# Altium footprint library connectLibPcb.PcbLib: 20 footprints (part 2 of 2)
Each footprint in its own frame and in the unit in brackets; x right, y up, seen from the top. Pads: shape width x height; smd on the part's side, far side on the other; paste and mask are expansions set on the pad; w line width, h text height; cw(c..) or ccw(c..) is an arc to the next point about the centre after c.
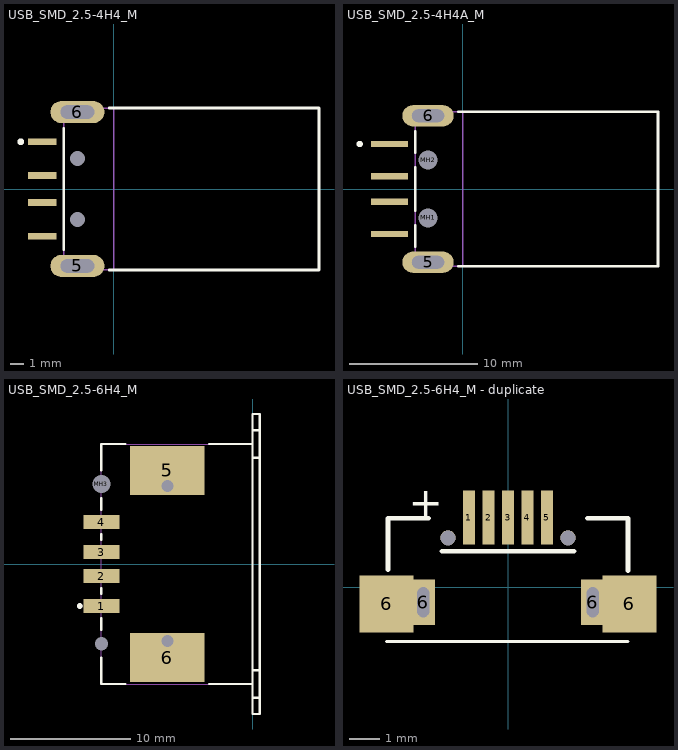
[diagram p1: the footprints below, top view; thin cyan lines are the x and y axes]

## USB_SMD_2.5-4H4_M [mm] "Connector; USB1.1, Type A, SM; 4 Position; Right Angle"
height 4.5
pads (8):
  rect 2.1x0.5 smd: 1(-5.3,3.5) 2(-5.3,1) 3(-5.3,-1) 4(-5.3,-3.5)
  oval 4x1.65 hole 1 slot 2.5 at 0 deg: 5(-2.7,-5.7) 6(-2.7,5.7)
  round 0.8 hole 1.1 unplated: MH1(-2.7,-2.25) MH2(-2.7,2.25)
Top Overlay:
  circle w0.25: c-6.9,3.5 r0.125
  lines w0.2: -3.7,-4.475 -3.7,4.475 ; -0.33,-6 15.2,-6 15.2,6 -0.33,6
Mechanical 1:
  lines w0.1: 0,-6 0,6
  text "PCB Edge" at 0.473,-5.173 h0.25
Mechanical 13:
  lines w0.1: -3.7,-6 -3.7,6 15.2,6 15.2,-6 -3.7,-6
3D body: height 4.5, standoff 0, extent -3.7,-6 15.2,6

## USB_SMD_2.5-4H4A_M [mm] "Connector; USB1.1, Type A, SM; 4 Position; Right Angle"
height 4.5
pads (8):
  rect 2.9x0.5 smd: 1(-5.7,3.5) 2(-5.7,1) 3(-5.7,-1) 4(-5.7,-3.5)
  oval 4x1.65 hole 1 slot 2.5 at 0 deg: 5(-2.7,-5.7) 6(-2.7,5.7)
  round 1.2 hole 1.5 unplated: MH1(-2.7,-2.25) MH2(-2.7,2.25)
Top Overlay:
  circle w0.25: c-8.025,3.5 r0.125
  lines w0.2: -3.7,-4.475 -3.7,-2.83 ; -3.7,-1.68 -3.7,1.68 ; -3.7,2.83 -3.7,4.475 ; -0.33,-6 15.2,-6 15.2,6 -0.33,6
Mechanical 1:
  lines w0.1: 0,-6 0,6
  text "PCB Edge" at 0.473,-5.173 h0.25
Mechanical 13:
  lines w0.1: -3.7,-6 -3.7,6 15.2,6 15.2,-6 -3.7,-6
3D body: height 4.5, standoff 0, extent -3.7,-6 15.2,6

## USB_SMD_2.5-6H4_M [mm] "Connector; USB1.1, Type A, SM; 4 Position; Right Angle"
height 7.8
pads (10):
  rect 3x1.2 smd: 1(-12.6,-3.5) 2(-12.6,-1) 3(-12.6,1) 4(-12.6,3.5)
  rect 6.2x4.1 smd: 5(-7.1,7.8) 6(-7.1,-7.8)
  round 0.7 hole 1 unplated: MH1(-7.1,6.496) MH2(-7.1,-6.404)
  round 1.2 hole 1.5 unplated: MH3(-12.6,6.65)
  round 0.8 hole 1.1 unplated: MH4(-12.6,-6.65)
Top Overlay:
  circle w0.25: c-14.4,-3.5 r0.125
  lines w0.2: -12.6,-7.8 -12.6,-10 -10.6,-10 ; -12.6,-5.5 -12.6,-4.5 ; -12.6,-2.5 -12.6,-2 ; -12.6,2 -12.6,2.5 ; -12.6,4.5 -12.6,5.5 ; -12.6,7.8 -12.6,10 -10.6,10 ; -3.6,-10 0,-10 ; -3.6,10 0,10 ; 0,-11.15 0.576,-11.15 ; 0,-8.85 0.6,-8.85 ; 0,8.85 0.588,8.85 ; 0,11.15 0.588,11.15 ; 0,-12.5 0.6,-12.5 0.6,12.5 0,12.5 0,-12.5
Mechanical 13:
  lines w0.1: -12.6,-10 -12.6,10 0,10 0,12.5 0.6,12.5 0.6,-12.5 0,-12.5 0,-10 -12.6,-10
3D body: height 7.8, standoff 0, extent -12.599,-12.499 0.599,12.499

## USB_SMD_2.5-6H4_M - duplicate [mm] "MicroUSB"
pads (11):
  rect 0.4x1.8 smd: 1(-1.3,2.32) 2(-0.65,2.32) 3(0,2.32) 4(0.65,2.32) 5(1.3,2.32)
  rect 1.8x1.9 smd: 6(-4.05,-0.55) 6(4.05,-0.55)
  rect 0.8x1.5 hole 0.4 slot 1 at 90 deg: 6(-2.825,-0.5) 6(2.825,-0.5)
  round 0.5 hole 0.5 unplated: ""(-2,1.65) ""(2,1.65)
Top Overlay:
  lines w0.1: -4.05,-1.8 4,-1.8
  lines w0.152: -4,0.584 -4,2.3 -2.65,2.3 ; -2.2,1.2 2.2,1.2 ; 2.65,2.3 4,2.3 4,0.55
  text "+" at -3.3,2.35 h1
Keep-Out Layer:
  lines w0.127: -3.054,-1.043 -2.596,-1.043 -2.596,0.075 -3.054,0.075 -3.054,-1.043 ; 2.596,-1.043 3.054,-1.043 3.054,0.075 2.596,0.075 2.596,-1.043
Mechanical 1:
  lines w0.127: -3.054,-1.043 -3.054,0.075 -2.596,0.075 -2.596,-1.043 -3.054,-1.043 ; 2.596,-1.043 2.596,0.075 3.054,0.075 3.054,-1.043 2.596,-1.043